# Altium schematic symbol library LTC8315.SchLib: 6 symbols
Pins are listed as number, name and electrical type; pins without a type are passive.

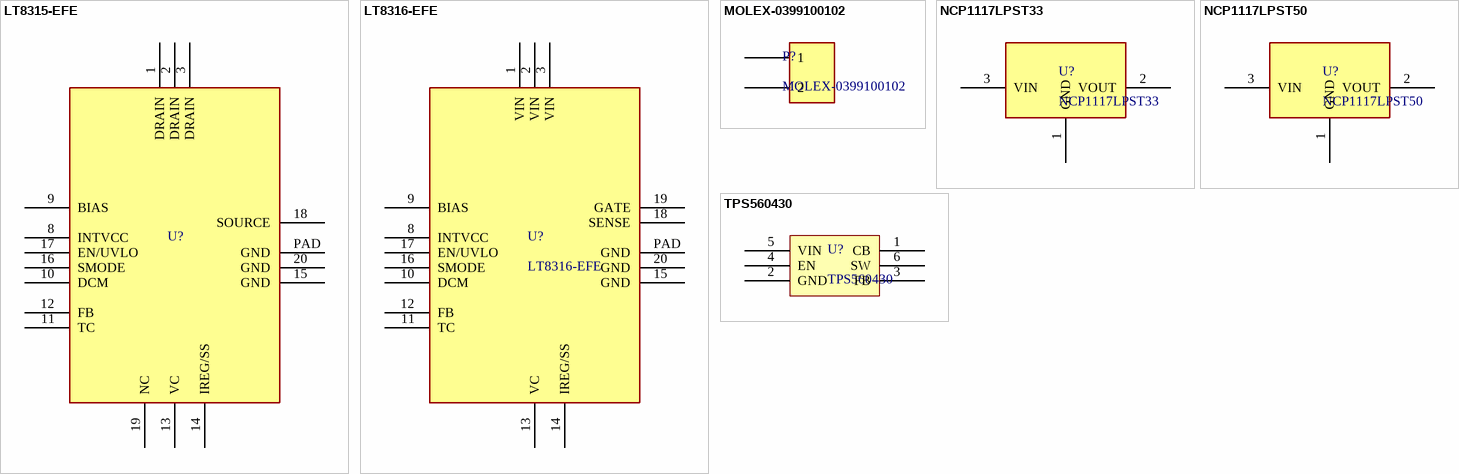
[diagram p0: symbols LT8315-EFE to TPS560430]

## LT8315-EFE
designator U?  (value not drawn)
IC REG FLYBACK 800MA 20TSSOP
pins: 1 DRAIN, 2 DRAIN, 3 DRAIN, 8 INTVCC, 9 BIAS, 10 DCM, 11 TC, 12 FB, 13 VC, 14 IREG/SS, 15 GND, 16 SMODE, 17 EN/UVLO, 18 SOURCE, 19 NC, 20 GND, PAD GND

## LT8316-EFE
designator U?
600VIN MICROPOWER, ISOLATED NO-O
pins: 1 VIN, 2 VIN, 3 VIN, 8 INTVCC, 9 BIAS, 10 DCM, 11 TC, 12 FB, 13 VC, 14 IREG/SS, 15 GND, 16 SMODE, 17 EN/UVLO, 18 SENSE, 19 GATE, 20 GND, PAD GND

## MOLEX-0399100102
designator P?
TERM BLK 2P SIDE ENT 10.16MM PCB
pins: 1, 2

## NCP1117LPST33
designator U?
IC REG LINEAR 3.3V 1A SOT223
pins: 1 GND, 2 VOUT, 3 VIN

## NCP1117LPST50
designator U?
IC REG LINEAR 5V 1A SOT223
pins: 1 GND, 2 VOUT, 3 VIN

## TPS560430
designator U?
IC REG BUCK PFM 600MA SOT23-6
pins: 1 CB, 2 GND, 3 FB, 4 EN, 5 VIN, 6 SW